# EAGLE library part MCP7940 (library MCP7940)
MCHP-MCP7940M-xx-8
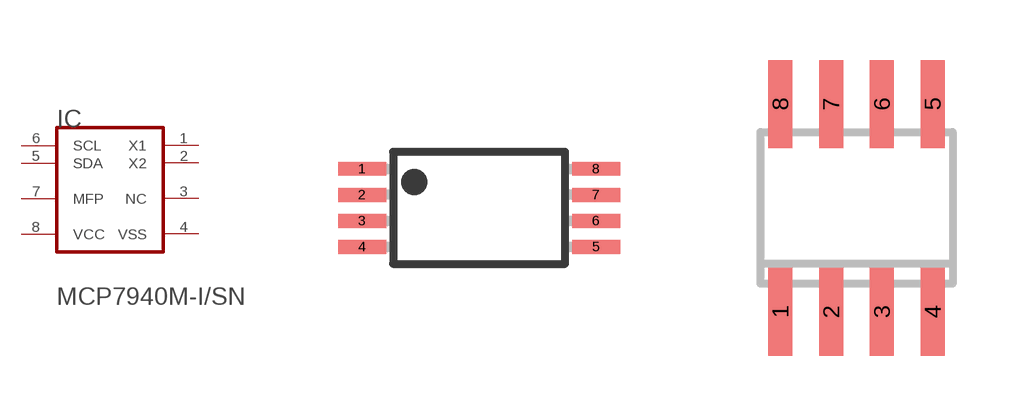
[diagram p0: symbol with the pads of TSSOP8; footprints TSSOP8, SOIC8]

Designator prefix IC

## MCP7940M-I/ST  [TSSOP8]
1  X1  pas
2  X2  pas
3  NC  pas
4  VSS  pwr
5  SDA
6  SCL  in
7  MFP  oc
8  VCC  pwr

## MCP7940M-I/SN  [SOIC8]
Pads as for TSSOP8

## Footprint TSSOP8 (pad centres in mm)
Plastic Small Outline
smd 1.2 x 0.35: 1 -2.925,0.975; 2 -2.925,0.325; 3 -2.925,-0.325; 4 -2.925,-0.975; 5 2.925,-0.975; 6 2.925,-0.325; 7 2.925,0.325; 8 2.925,0.975

## Footprint SOIC8 (pad centres in mm)
Small Outline IC
smd 0.6 x 2.2: 1 -1.905,-2.6; 2 -0.635,-2.6; 3 0.635,-2.6; 4 1.905,-2.6; 5 1.905,2.6; 6 0.635,2.6; 7 -0.635,2.6; 8 -1.905,2.6